# EAGLE library part 79109-18 (library con-molex-milli-grid)
RECEPTACAL
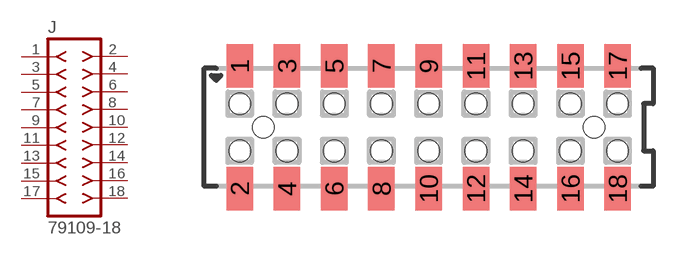
[diagram p166: symbol with the pads of 79109-18; footprint 79109-18]

Designator prefix J

## 79109-18  [79109-18]
1  1  pas
2  2  pas
3  3  pas
4  4  pas
5  5  pas
6  6  pas
7  7  pas
8  8  pas
9  9  pas
10  10  pas
11  11  pas
12  12  pas
13  13  pas
14  14  pas
15  15  pas
16  16  pas
17  17  pas
18  18  pas

## Footprint 79109-18 (pad centres in mm)
RECEPTACAL SMD Dual Row, Vertical, Pass-Thru
smd 1.12 x 1.83: 1 -8,2.6; 2 -8,-2.6; 3 -6,2.6; 4 -6,-2.6; 5 -4,2.6; 6 -4,-2.6; 7 -2,2.6; 8 -2,-2.6; 9 0,2.6; 10 0,-2.6; 11 2,2.6; 12 2,-2.6; 13 4,2.6; 14 4,-2.6; 15 6,2.6; 16 6,-2.6; 17 8,2.6; 18 8,-2.6
hole 0.914 at -7,0
hole 0.914 at -8,1
hole 0.914 at -8,-1
hole 0.914 at -6,-1
hole 0.914 at -6,1
hole 0.914 at -4,-1
hole 0.914 at -4,1
hole 0.914 at 7,0
hole 0.914 at -2,1
hole 0.914 at -2,-1
hole 0.914 at 0,1
hole 0.914 at 0,-1
hole 0.914 at 2,1
hole 0.914 at 2,-1
hole 0.914 at 4,1
hole 0.914 at 4,-1
hole 0.914 at 6,-1
hole 0.914 at 6,1
hole 0.914 at 8,1
hole 0.914 at 8,-1